# Altium footprint library ultra sonic.PcbLib: 2 footprints
Each footprint in its own frame and in the unit in brackets; x right, y up, seen from the top. Pads: shape width x height; smd on the part's side, far side on the other; paste and mask are expansions set on the pad; w line width, h text height; cw(c..) or ccw(c..) is an arc to the next point about the centre after c.
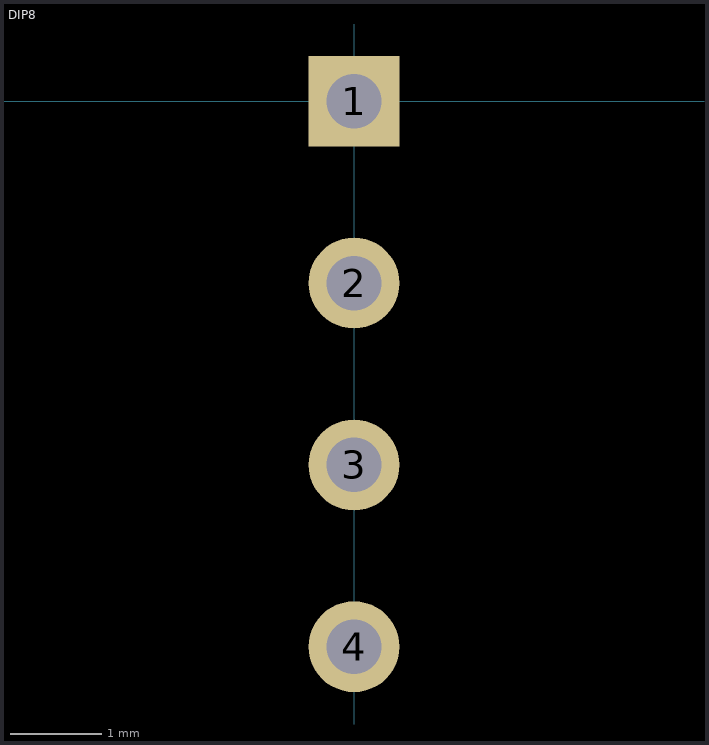
[diagram p0: the footprints below, top view; thin cyan lines are the x and y axes]

## DIP8 [mm]
pads (4):
  rect 1x1 hole 0.6: 1(0,0)
  round 1 hole 0.6: 2(0,-2) 3(0,-4) 4(0,-6)

## PCBComponent_1 [mm]